# Altium schematic symbol library HW_HOLLAND_NCDM_MONITOR_R1.SchLib: 617 symbols (part 5 of 7)
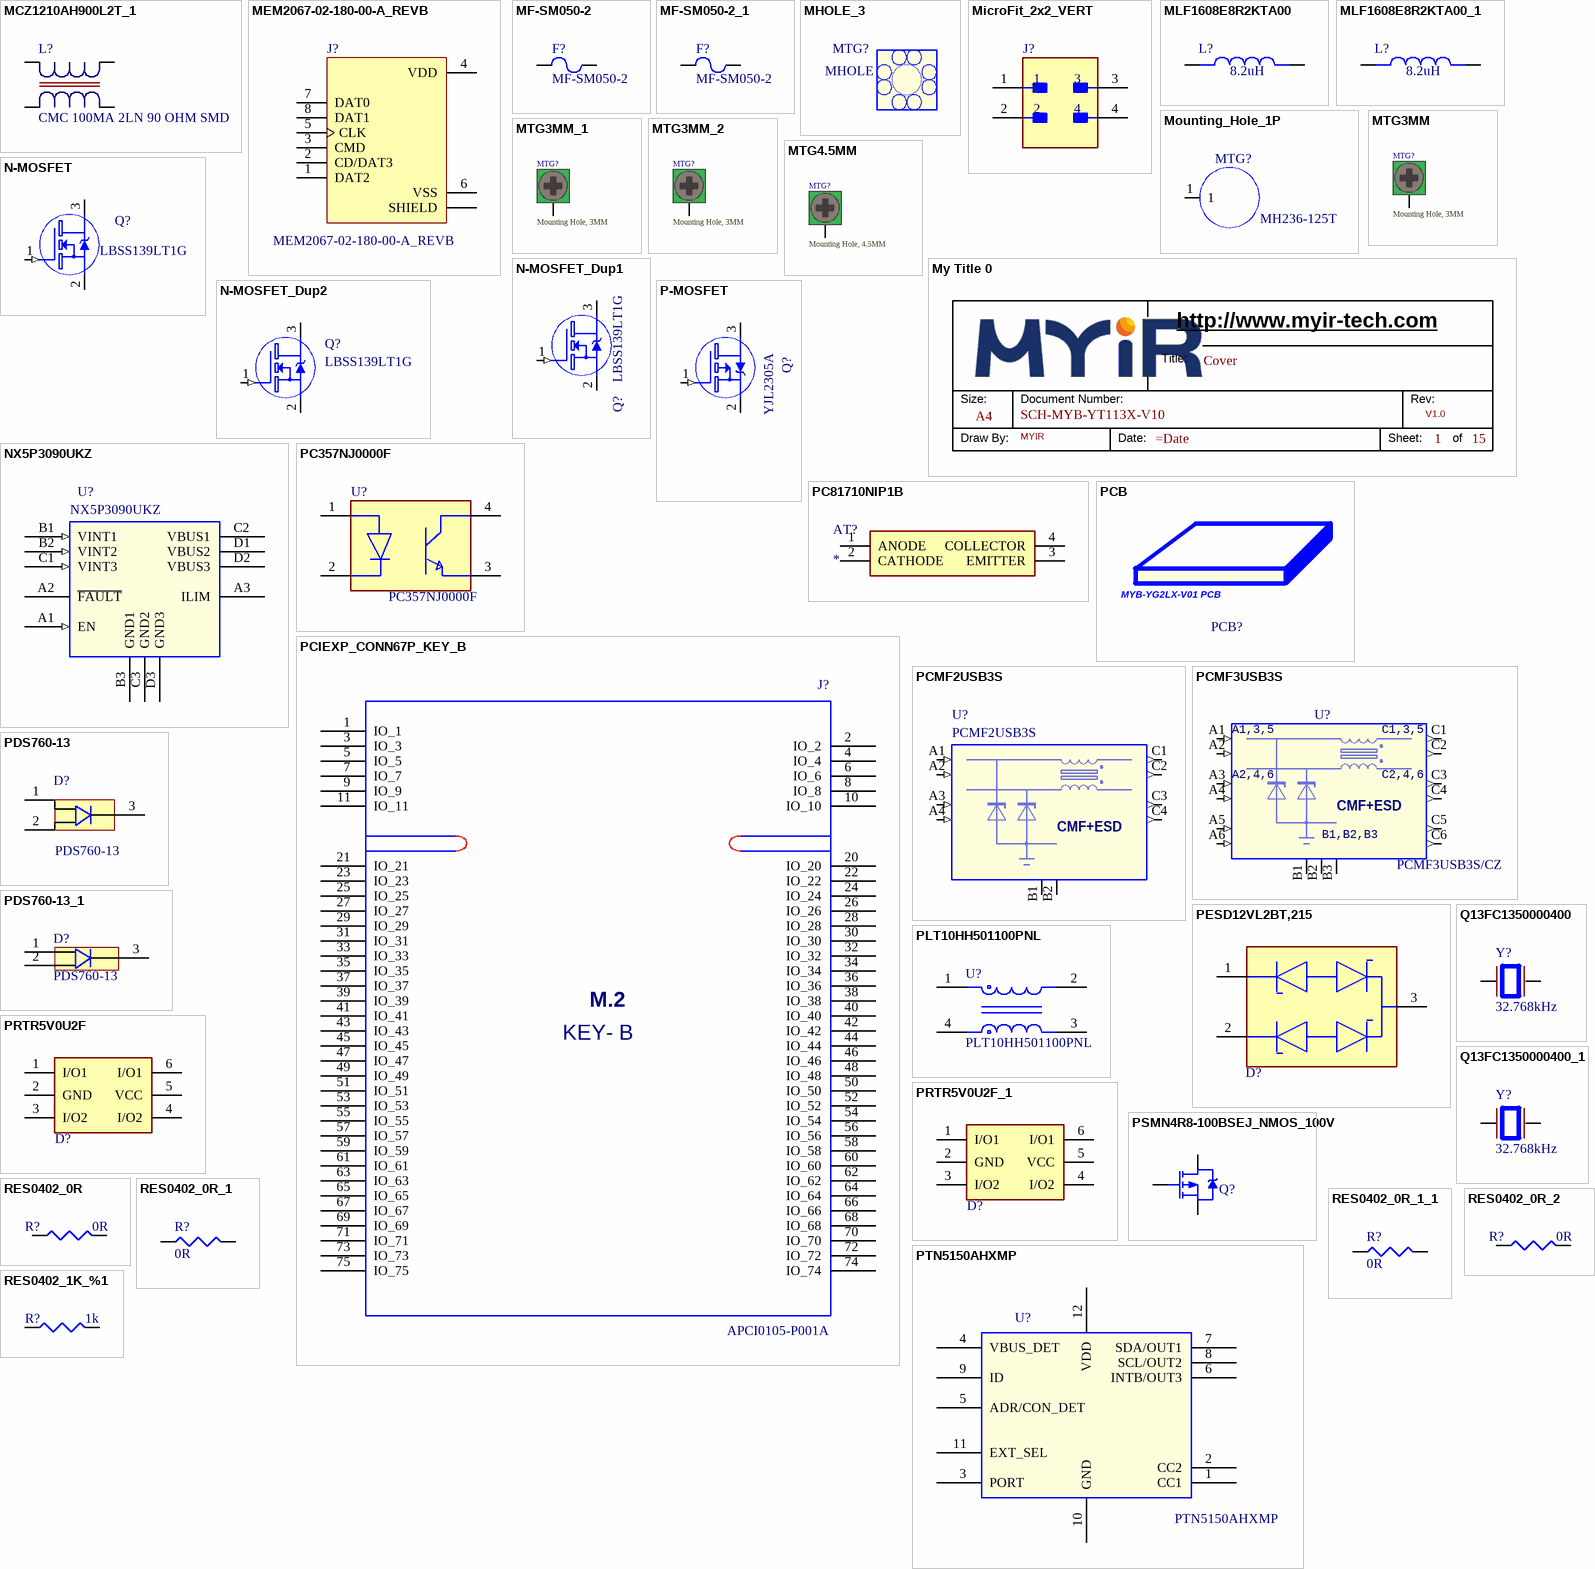
[diagram p23: symbols MCZ1210AH900L2T_1 to RES0402_1K_%1]

## MCZ1210AH900L2T_1
designator L?, comment CMC 100MA 2LN 90 OHM SMD
2 Line Common Mode Choke Surface Mount 90 Ohms @ 100 MHz 100mA DCR 1.75Ohm; Manufacturer Part Number: MCZ1210AH900L2TA0G; LCSC Manufacturer Part Number: MCZ1210AH900L2TD0G; Order Code: Digi: 445-MCZ1210AH900L2TA0GTR-ND; LCSC Part Number: C435268
footprint IND_MCZ1210AH_TDK
pins: 1, 2, 3 4, 4

## MEM2067-02-180-00-A_REVB
designator J?
Micro SD Memory Card ConnectorSMT, Hinged, 1.80mm Profile; Price: None; Value: *; Manufacturer Part Number: MEM2067-02-180-00-A_REVB; Package: None; Availability: Unavailable
footprint GCT_MEM2067-02-180-00-A_REVB
pins: 1 DAT2, 2 CD/DAT3, 3 CMD, 4 VDD, 5 CLK, 6 VSS, 7 DAT0, 8 DAT1, 9 SHIELD, 10 SHIELD, 11 SHIELD, 12 SHIELD

## MF-SM050-2
designator F?
PTC Resettable Fuse, 60 V, 40 A, -40 to 85 degC, 2-Pin SMD, RoHS, Tape and Reel; Manufacturer Part Number: MF-SM050-2; LCSC Manufacturer Part Number: MF-SM050-2; LCSC Part Number: C208496
footprint BOUR-MF-SM050-2_V (SMD, 2-Leads, Body 7.355x5.44mm)
pins: 1, 2

## MF-SM050-2_1
designator F?, comment MF-SM050-2
PTC Resettable Fuse, 60 V, 40 A, -40 to 85 degC, 2-Pin SMD, RoHS, Tape and Reel; Manufacturer Part Number: MF-SM050-2; LCSC Manufacturer Part Number: MF-SM050-2; LCSC Part Number: C208496
footprint BOUR-MF-SM050-2_V (SMD, 2-Leads, Body 7.355x5.44mm)
pins: 1, 2

## MHOLE_3
designator MTG?, comment MHOLE
PCB Footprint: hole3_2p-8
footprint mh230-156
footprint hole3_2p-8
pins: 1 GND1, 2 GND2, 3 GND3, 4 GND4, 5 GND5, 6 GND6, 7 GND7, 8 GND8, 9 GND9

## MicroFit_2x2_VERT
designator J?, comment 0430450427  (value not drawn)
Connector Header Through Hole 4 position 0.118" (3.00mm); Manufacturer: Molex; Manufacturer Part Number: 0430450427
footprint MicroFit_2x2_VERT
pins: 1, 2, 3, 4

## MLF1608E8R2KTA00
designator L?, comment value 8.2uH  (hidden comment: FIXED IND 8.2UH 10MA 1.5 OHM SMD)
Inductor RF Chip Shielded Multi-Layer 8.2uH 10% 4MHz 35Q-Factor Ferrite 10mA 1.5Ohm DCR 0603 T/R; Manufacturer Part Number: MLF1608E8R2KTA00; Order Code: Digi: 445-1024-2-ND
footprint INDC1608X95N
pins: 1, 2

## MLF1608E8R2KTA00_1
designator L?, comment value 8.2uH  (hidden comment: FIXED IND 8.2UH 10MA 1.5 OHM SMD)
Inductor RF Chip Shielded Multi-Layer 8.2uH 10% 4MHz 35Q-Factor Ferrite 10mA 1.5Ohm DCR 0603 T/R; Manufacturer Part Number: MLF1608E8R2KTA00; Order Code: Digi: 445-1024-2-ND
footprint INDC1608X95N
pins: 1, 2

## Mounting_Hole_1P
designator MTG?, comment MH236-125T
Mounting hole DRILL 125 CIRC PAD 236 PLATED THRU HOLE, NO PART TO ORDER; CLASS: IC; PCB Footprint: GNDPOINT256; CAD_APPROVED: Yes; MFG_PN01: none; AGILE_PN: 280-77051; HEIGHT: 0.05 MM; ROHS: Yes; MFG_NAME01: none
footprint GNDPOINT256
pins: 1

## MTG3MM
designator MTG?, comment Mounting Hole, 3MM  (no BOM)
footprint MTG-PTH-3MM
pins: 0

## MTG3MM_1
designator MTG?, comment Mounting Hole, 3MM  (no BOM)
footprint MTG-PTH-3MM
pins: 0

## MTG3MM_2
designator MTG?, comment Mounting Hole, 3MM  (no BOM)
footprint MTG-PTH-3MM
pins: 0

## MTG4.5MM
designator MTG?, comment Mounting Hole, 4.5MM  (no BOM)
footprint MTG-PTH-4.5MM
pins: 0

## My Title 0
designator *?  Page Count: 15  Page Number: 1  Page Size: A4  Title: SCH-MYB-YT113X-V10  RevCode: V1.0  Doc: Cover  Drawing: MYIR  (hidden comment: My Title 0)  (graphical)
Company: ÓÅÁú¿Æ¼¼; Page Create Date: May 29, 2006; WebSite: http://www.ucdragon.com; Page Modify Date: =Date
text: http://www.myir-tech.com; Title:; Size:; Document Number:; Rev:; Draw By:; Date:; Sheet:; of

## N-MOSFET
designator Q?, comment LBSS139LT1G
Mosfet,N-Channel,50V,0.2A,SMD,SOT-23,LRC; Myir P/N: 20703.00012; Part Type: Mosfet; Manufacturer: LRC; Manufacturer P/N: LBSS139LT1G; Reserve Value: LBSS139LT1G; Datasheet: LBSS139LT1G.pdf; PCB Footprint: SOT-23
footprint SOT23T02
footprint SOT-23
pins: 1 G (in), 2 S, 3 D (oc)

## N-MOSFET_Dup1
designator Q?, comment LBSS139LT1G
Mosfet,N-Channel,50V,0.2A,SMD,SOT-23,LRC; Myir P/N: 20703.00012; PCB Footprint: SOT-23; Datasheet: LBSS139LT1G.pdf; Reserve Value: LBSS139LT1G; Manufacturer P/N: LBSS139LT1G; Manufacturer: LRC; Part Type: Mosfet
footprint SOT23T02
footprint SOT-23
pins: 1 G (in), 2 S, 3 D (oc)

## N-MOSFET_Dup2
designator Q?, comment LBSS139LT1G
Mosfet,N-Channel,50V,0.2A,SMD,SOT-23,LRC; Myir P/N: 20703.00012; Part Type: Mosfet; Manufacturer: LRC; Manufacturer P/N: LBSS139LT1G; Reserve Value: LBSS139LT1G; Datasheet: LBSS139LT1G.pdf; PCB Footprint: SOT-23
footprint SOT23T02
footprint SOT-23
pins: 1 G (in), 2 S, 3 D (oc)

## NX5P3090UKZ
designator U?
IC,USB PD and type C current-limited power switch,SMD,WLCSP12,X5PT2,NXP; Myir P/N: 20105.00023; CLASS: IC; Part Type: Logic; Manufacturer: NXP; Manufacturer P/N: NX5P3090UKZ; Reserve Value: NX5P3090UKZ; Datasheet: NX5P3090.pdf; PCB Footprint: WLCSP12
footprint WLCSP12
pins: A1 EN (in), A2 ~{FAULT} (oc), A3 ILIM, B1 VINT1 (in), B2 VINT2 (in), B3 GND1 (power), C1 VINT3 (in), C2 VBUS1, C3 GND2 (power), D1 VBUS2, D2 VBUS3, D3 GND3 (power)

## P-MOSFET
designator Q?, comment YJL2305A
Mosfet,P-Channel,15V,70OHM,5.6A,SOT23,SMD,YangJie; RP2 Manufacturer P/N: PMV48XPA; RP1 Manufacturer P/N: IRLML6401TRPBF; RP2 Myir P/N: 20703.00014; RP1 Myir P/N: 20703.00005; Myir P/N: 20703.80039; PCB Footprint: SOT-23; Part Type: Mosfet; Manufacturer: YangJie; Manufacturer P/N: YJL2305A; Reserve Value: YJL2305A; Datasheet: YJL2305A.pdf
footprint SOT23T02
footprint SOT-23
pins: 1 G (in), 2 S, 3 D

## PC357NJ0000F
designator U?, comment Manufacturer Part Number: PC357NJ0000F  (hidden comment: OPTOISO 3.75KV TRANSISTOR 4BESOP)
Optoisolator Transistor Output 3750Vrms 1 Channel 4-SMD; Manufacturer: SHARP/Socle Technology
footprint Sharp_PC357NJ0000F_0
pins: 1 A, 2 C, 3 E, 4 C

## PC81710NIP1B
designator AT?
Attenuator or Isolator; Manufacturer_Name: Sharp Microelectronics; Manufacturer_Part_Number: PC81710NIP1B; Datasheet Link: https://global.sharp/products/device/lineup/data/pdf/datasheet/PC8171xNSZ1B_e.pdf; Height: 4.2mm; Mouser Part Number: 852-PC81710NIP1B; Mouser Price/Stock: https://www.mouser.co.uk/ProductDetail/Sharp-Microelectronics/PC81710NIP1B?qs=MLItCLRbWswN8lAuXmPENg%3D%3D
footprint SOP254P960X420-4N
pins: 1 ANODE, 2 CATHODE, 3 EMITTER, 4 COLLECTOR

## PCB
designator PCB?, comment MYB-YG2LX-V01 PCB
PCB Footprint: id-board; Page: 31
footprint id-board

## PCIEXP_CONN67P_KEY_B
designator J?, comment APCI0105-P001A
Board Connector,M.2 B-KEY, M.2 Connectors, Connector Height 4.2 mm, Gold, Board-to-Board, 67 Position, 0.5mm,Lotes; CLASS: IO; Myir P/N: 21110.00027; PCB Footprint: CONN-2199230-3; Datasheet: APCI0105-H=4.2(B KEY) .pdf; Reserve Value: APCI0105-P001A; Manufacturer P/N: APCI0105-P001A; Manufacturer: Lotes; Part Type: Board Connector
footprint CONN-2199230-3
pins: 1 IO_1, 2 IO_2, 3 IO_3, 4 IO_4, 5 IO_5, 6 IO_6, 7 IO_7, 8 IO_8, 9 IO_9, 10 IO_10, 11 IO_11, 20 IO_20, 21 IO_21, 22 IO_22, 23 IO_23, 24 IO_24, 25 IO_25, 26 IO_26, 27 IO_27, 28 IO_28, 29 IO_29, 30 IO_30, 31 IO_31, 32 IO_32, 33 IO_33, 34 IO_34, 35 IO_35, 36 IO_36, 37 IO_37, 38 IO_38, 39 IO_39, 40 IO_40, 41 IO_41, 42 IO_42, 43 IO_43, 44 IO_44, 45 IO_45, 46 IO_46, 47 IO_47, 48 IO_48, 49 IO_49, 50 IO_50, 51 IO_51, 52 IO_52, 53 IO_53, 54 IO_54, 55 IO_55, 56 IO_56, 57 IO_57, 58 IO_58, 59 IO_59, 60 IO_60, 61 IO_61, 62 IO_62, 63 IO_63, 64 IO_64, 65 IO_65, 66 IO_66, 67 IO_67, 68 IO_68, 69 IO_69, 70 IO_70, 71 IO_71, 72 IO_72, 73 IO_73, 74 IO_74, 75 IO_75
text: M.2; KEY- B

## PCMF2USB3S
designator U?
IC,Common-mode EMI filter for 2 channels with integrated ESD protection,SMD,WLCSP10,PF2S,NXP; Myir P/N: 20114.00011; CLASS: IC; Datasheet: PCMFxUSB3S.pdf; Reserve Value: PCMF2USB3S; Manufacturer P/N: PCMF2USB3S; Manufacturer: NXP; Part Type: Protection; PCB Footprint: WLCSP10
footprint WLCSP10
pins: A1 CH1_IN+ (in), A2 CH1_IN- (in), A3 CH2_IN+ (in), A4 CH2_IN- (in), B1 GND_CH1 (power), B2 GND_CH2 (power), C1 CH1_OUT+ (out), C2 CH1_OUT- (out), C3 CH2_OUT+ (out), C4 CH2_OUT- (out)
text: CMF+ESD

## PCMF3USB3S
designator U?, comment PCMF3USB3S/CZ
IC,Common-mode EMI filter for 3 channels with integrated ESD protection,SMD,WLCSP15,PF3S,NXP; Myir P/N: 20114.00010; CLASS: IC; Part Type: Protection; Manufacturer: NXP; Manufacturer P/N: PCMF3USB3S/CZ; Reserve Value: PCMF3USB3S/CZ; Datasheet: PCMFxUSB3S.pdf; PCB Footprint: WLCSP15
footprint WLCSP15
pins: A1 CH1_IN+ (in), A2 CH1_IN- (in), A3 CH2_IN+ (in), A4 CH2_IN- (in), A5 CH3_IN+ (in), A6 CH3_IN- (in), B1 GND_CH1 (power), B2 GND_CH2 (power), B3 GND_CH3 (power), C1 CH1_OUT+ (out), C2 CH1_OUT- (out), C3 CH2_OUT+ (out), C4 CH2_OUT- (out), C5 CH3_OUT+ (out), C6 CH3_OUT- (out)
text: A1,3,5; C1,3,5; A2,4,6; C2,4,6; CMF+ESD; B1,B2,B3

## PDS760-13
designator D?, comment Manufacturer Part Number: PDS760-13  (hidden comment: DIODE SCHOTTKY 60V 7A POWERDI5)
Diode 60 V 7A Surface Mount PowerDI™ 5; Order Code: Digi: PDS760DITR-ND; LCSC Manufacturer Part Number: PDS760-13; LCSC Part Number: C96113
footprint POWERDI5
pins: 1 LEFT_PIN, 2 RIGHT_PIN, 3 BOTTOMSIDE_HEAT_SINK

## PDS760-13_1
designator D?, comment Manufacturer Part Number: PDS760-13  (hidden comment: DIODE SCHOTTKY 60V 7A POWERDI5)
Diode 60 V 7A Surface Mount PowerDI™ 5; Order Code: Digi: PDS760DITR-ND; LCSC Manufacturer Part Number: PDS760-13; LCSC Part Number: C96113
footprint POWERDI5
pins: 1 LEFT_PIN, 2 RIGHT_PIN, 3 BOTTOMSIDE_HEAT_SINK

## PESD12VL2BT,215
designator D?  (value not drawn)
37V Clamp 5A (8/20µs) Ipp Tvs Diode Surface Mount TO-236AB; Manufacturer: Nexperia USA Inc.; Manufacturer Part Number: PESD12VL2BT,215; Voltage - Clamping (Max) @ Ipp: 37V; Current - Peak Pulse (10/1000µs): 5A
footprint Nexperia_SOT23_0
pins: 1 cathode 1, 2 cathode 2, 3 double cathode

## PLT10HH501100PNL
designator U?
2 Line Common Mode Choke Surface Mount 500 Ohms @ 10 MHz 10A DCR 4.1mOhm; Manufacturer Name: Murata Electronics; Voltage Rating - DC: 100V; Manufacturer Part Number: PLT10HH501100PNL; Impedance @ Frequency: 500Ohms@10MHz; Current Rating (Max): 10A
footprint Murata_PLT10HN_MFG
pins: 1, 2, 3, 4

## PRTR5V0U2F
designator D?, comment SON-6(1x1.5) ESD Protection Devices ROHS  (value not drawn)
Manufacturer Part Number: PRTR5V0U2F; Order Code: LCSC: C2937001; LCSC Manufacturer Part Number: PRTR5V0U2F; LCSC Part Number: C2937001
footprint Nexperia_SOT886_MFG
pins: 1 I/O1, 2 GND, 3 I/O2, 4 I/O2, 5 VCC (power), 6 I/O1

## PRTR5V0U2F_1
designator D?, comment SON-6(1x1.5) ESD Protection Devices ROHS  (value not drawn)
Manufacturer Part Number: PRTR5V0U2F; Order Code: LCSC: C2937001; LCSC Manufacturer Part Number: PRTR5V0U2F; LCSC Part Number: C2937001
footprint Nexperia_SOT886_MFG
pins: 1 I/O1, 2 GND (power), 3 I/O2, 4 I/O2, 5 VCC (power), 6 I/O1

## PSMN4R8-100BSEJ_NMOS_100V
designator Q?, comment 100V 120A  (value not drawn)
MOSFET N-CH 100V D2PAK; Manufacturer Part Number: PSMN4R8-100BSEJ; Order Code: DIGI : 1727-1103-1-ND; Value: 100V 120A
footprint TO263-2
pins: 1 G, 2 D, 3 S

## PTN5150AHXMP
designator U?
IC,CC logic for USB Type-C applications,SMD,XFQFN12,50,NXP; Myir P/N: 20105.00024; PCB Footprint: x2qfn12; CLASS: IC; Datasheet: PTN5150.pdf; Reserve Value: PTN5150AHXMP; Manufacturer P/N: PTN5150AHXMP; Manufacturer: NXP; Part Type: Logic
footprint x2qfn12
pins: 1 CC1, 2 CC2, 3 PORT, 4 VBUS_DET, 5 ADR/CON_DET, 6 INTB/OUT3, 7 SDA/OUT1, 8 SCL/OUT2, 9 ID, 10 GND, 11 EXT_SEL, 12 VDD

## Q13FC1350000400
designator Y?, comment value 32.768kHz  (hidden comment: SEIKO 3215 32.768kHz CRSYTAL)
32.768kHz 12.5pF ±20ppm SMD3215-2P Crystals ROHS; Manufacturer Part Number: Q13FC1350000400; Order Code: LCSC: C32346; LCSC Manufacturer Part Number: Q13FC1350000400; LCSC Part Number: C32346
footprint XTAL_ABS07-32.768KHZ-T
pins: 1, 2

## Q13FC1350000400_1
designator Y?, comment value 32.768kHz  (hidden comment: SEIKO 3215 32.768kHz CRSYTAL)
32.768kHz 12.5pF ±20ppm SMD3215-2P Crystals ROHS; Manufacturer Part Number: Q13FC1350000400; Order Code: LCSC: C32346; LCSC Manufacturer Part Number: Q13FC1350000400; LCSC Part Number: C32346
footprint XTAL_ABS07-32.768KHZ-T
pins: 1, 2

## RES0402_0R
designator R?, comment value 0R  (hidden comment: RES 0 OHM JUMPER 1/16W 0402)
0 Ohms Jumper Chip Resistor 0402 (1005 Metric) Moisture Resistant Thick Film; Manufacturer Part Number: RC0402JR-070RL; Order Code: Digi: 311-0.0JRTR-ND; Sirius Stock Code: *; LCSC Manufacturer Part Number: RC0402JR-070RL; LCSC Part Number: C60485
footprint RES0402(1005)
pins: 1, 2

## RES0402_0R_1
designator R?, comment value 0R  (hidden comment: RES 0 OHM JUMPER 1/16W 0402)
0 Ohms Jumper Chip Resistor 0402 (1005 Metric) Moisture Resistant Thick Film; Manufacturer Part Number: RC0402JR-070RL; Order Code: Digi: 311-0.0JRTR-ND; Sirius Stock Code: *; LCSC Manufacturer Part Number: RC0402JR-070RL; LCSC Part Number: C60485
footprint RES0402(1005)
pins: 1, 2

## RES0402_0R_1_1
designator R?, comment value 0R  (hidden comment: RES 0 OHM JUMPER 1/16W 0402)
0 Ohms Jumper Chip Resistor 0402 (1005 Metric) Moisture Resistant Thick Film; Manufacturer Part Number: RC0402JR-070RL; Order Code: Digi: 311-0.0JRTR-ND; Sirius Stock Code: *; LCSC Manufacturer Part Number: RC0402JR-070RL; LCSC Part Number: C60485
footprint RES0402(1005)
pins: 1, 2

## RES0402_0R_2
designator R?, comment value 0R  (hidden comment: RES 0 OHM JUMPER 1/16W 0402)
0 Ohms Jumper Chip Resistor 0402 (1005 Metric) Moisture Resistant Thick Film; Manufacturer Part Number: RC0402JR-070RL; Order Code: Digi: 311-0.0JRTR-ND; Sirius Stock Code: *; LCSC Manufacturer Part Number: RC0402JR-070RL; LCSC Part Number: C60485
footprint RES0402(1005)
pins: 1, 2

## RES0402_1K_%1
designator R?, comment value 1k  (hidden comment: RES 1K OHM 1% 1/16W 0402)
1 kOhms ±1% 0.063W, 1/16W Chip Resistor 0402 (1005 Metric) Moisture Resistant Thick Film; Manufacturer Part Number: RC0402FR-071KL; Order Code: Digi: 311-1.00KLRTR-ND; Sirius Stock Code: *; LCSC Manufacturer Part Number: RC0402FR-071KL; LCSC Part Number: C106235
footprint RES0402(1005)
pins: 1, 2

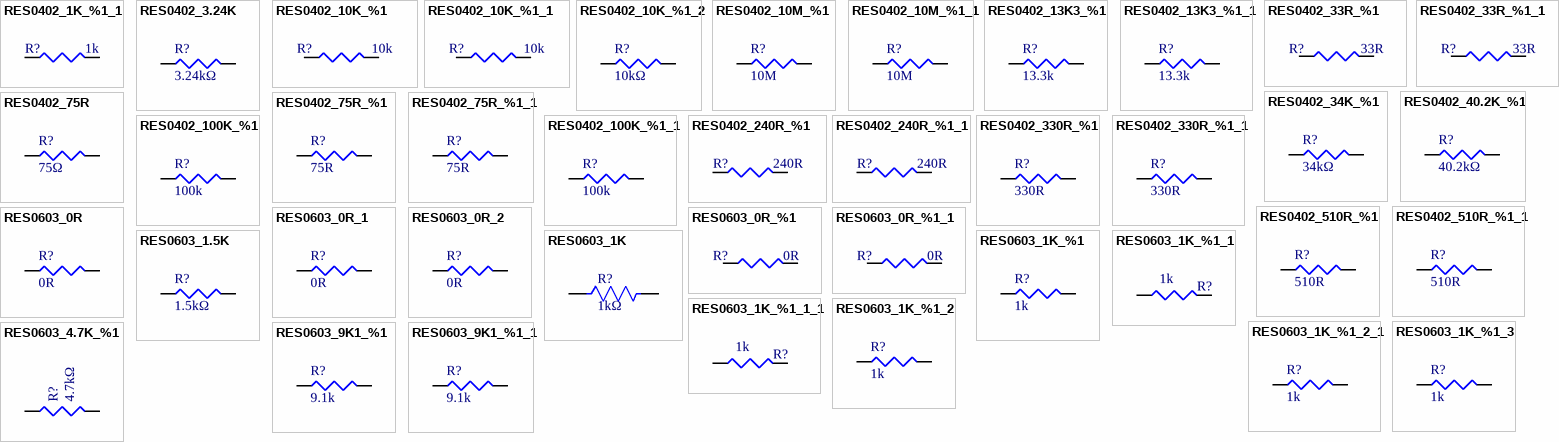
[diagram p12: symbols RES0402_1K_%1_1 to RES0603_9K1_%1_1]

## RES0402_1K_%1_1
designator R?, comment value 1k  (hidden comment: RES 1K OHM 1% 1/16W 0402)
1 kOhms ±1% 0.063W, 1/16W Chip Resistor 0402 (1005 Metric) Moisture Resistant Thick Film; Manufacturer Part Number: RC0402FR-071KL; Order Code: Digi: 311-1.00KLRTR-ND; Sirius Stock Code: *; LCSC Manufacturer Part Number: RC0402FR-071KL; LCSC Part Number: C106235
footprint RES0402(1005)
pins: 1, 2

## RES0402_3.24K
designator R?, comment 3.24kΩ
22.1 kOhms ±1% 0.063W, 1/16W Chip Resistor 0402 (1005 Metric) Automotive AEC-Q200 Thick Film; Manufacturer Part Number: ERJ-2RKF3241X; LCSC Manufacturer Part Number: RC0402FR-0756K2L; Order Code: Digi: YAG3187TR-ND; Sirius Stock Code: *; LCSC Part Number: C183355; Value: 3.24kΩ
footprint RES0402
pins: 1, 2

## RES0402_10K_%1
designator R?, comment value 10k  (hidden comment: RES 10K OHM 1% 1/16W 0402)
10 kOhms ±1% 0.063W, 1/16W Chip Resistor 0402 (1005 Metric) Moisture Resistant Thick Film; Manufacturer Part Number: RC0402FR-0710KL; Order Code: Digi: 311-10.0KLRTR-ND; Sirius Stock Code: *; LCSC Manufacturer Part Number: RC0402FR-0710KL; LCSC Part Number: C60490
footprint RES0402(1005)
pins: 1, 2

## RES0402_10K_%1_1
designator R?, comment value 10k  (hidden comment: RES 10K OHM 1% 1/16W 0402)
10 kOhms ±1% 0.063W, 1/16W Chip Resistor 0402 (1005 Metric) Moisture Resistant Thick Film; Manufacturer Part Number: RC0402FR-0710KL; Order Code: Digi: 311-10.0KLRTR-ND; Sirius Stock Code: *; LCSC Manufacturer Part Number: RC0402FR-0710KL; LCSC Part Number: C60490
footprint RES0402(1005)
pins: 1, 2

## RES0402_10K_%1_2
designator R?, comment 10kΩ
10 kOhms ±1% 0.063W, 1/16W Chip Resistor 0402 (1005 Metric) Moisture Resistant Thick Film; Manufacturer Part Number: RC1005F103CS; LCSC Manufacturer Part Number: RC0402FR-0756K2L; Order Code: Digi: YAG3187TR-ND; Sirius Stock Code: *; LCSC Part Number: C183355; Value: 10kΩ
footprint RES0402
pins: 1, 2

## RES0402_10M_%1
designator R?, comment value 10M  (hidden comment: RES 10M OHM 1% 1/16W 0402)
10MΩ 62.5mW ±1% Thick Film Resistors 0402 Chip Resistor - Surface Mount ROHS; Manufacturer Part Number: RC0402FR-0710ML; Order Code: Digi: 311-10.0MLRTR-ND; Sirius Stock Code: *; LCSC Manufacturer Part Number: RC0402FR-0710ML; LCSC Part Number: C138067
footprint RES0402(1005)
pins: 1, 2

## RES0402_10M_%1_1
designator R?, comment value 10M  (hidden comment: RES 10M OHM 1% 1/16W 0402)
10MΩ 62.5mW ±1% Thick Film Resistors 0402 Chip Resistor - Surface Mount ROHS; Manufacturer Part Number: RC0402FR-0710ML; Order Code: Digi: 311-10.0MLRTR-ND; Sirius Stock Code: *; LCSC Manufacturer Part Number: RC0402FR-0710ML; LCSC Part Number: C138067
footprint RES0402(1005)
pins: 1, 2

## RES0402_13K3_%1
designator R?, comment value 13.3k  (hidden comment: RES 1M OHM 1% 1/16W 0402)
1 MOhms ±1% 0.063W, 1/16W Chip Resistor 0402 (1005 Metric) Moisture Resistant Thick Film; Manufacturer Part Number: RC0402FR-0713K3L; Order Code: Digi: YAG2974TR-ND; Sirius Stock Code: *; LCSC Manufacturer Part Number: RC0402FR-0713K3L; LCSC Part Number: C274352
footprint RES0402(1005)
pins: 1, 2

## RES0402_13K3_%1_1
designator R?, comment value 13.3k  (hidden comment: RES 1M OHM 1% 1/16W 0402)
1 MOhms ±1% 0.063W, 1/16W Chip Resistor 0402 (1005 Metric) Moisture Resistant Thick Film; Manufacturer Part Number: RC0402FR-0713K3L; Order Code: Digi: YAG2974TR-ND; Sirius Stock Code: *; LCSC Manufacturer Part Number: RC0402FR-0713K3L; LCSC Part Number: C274352
footprint RES0402(1005)
pins: 1, 2

## RES0402_33R_%1
designator R?, comment value 33R  (hidden comment: RES 33 OHM 1% 1/16W 0402)
33 Ohms ±1% 0.063W, 1/16W Chip Resistor 0402 (1005 Metric) Moisture Resistant Thick Film; Manufacturer Part Number: RC0402FR-0733RL; Order Code: Digi: 311-33.0LRTR-ND; Sirius Stock Code: *; LCSC Manufacturer Part Number: RC0402FR-0733RL; LCSC Part Number: C138002
footprint RES0402(1005)
pins: 1, 2

## RES0402_33R_%1_1
designator R?, comment value 33R  (hidden comment: RES 33 OHM 1% 1/16W 0402)
33 Ohms ±1% 0.063W, 1/16W Chip Resistor 0402 (1005 Metric) Moisture Resistant Thick Film; Manufacturer Part Number: RC0402FR-0733RL; Order Code: Digi: 311-33.0LRTR-ND; Sirius Stock Code: *; LCSC Manufacturer Part Number: RC0402FR-0733RL; LCSC Part Number: C138002
footprint RES0402(1005)
pins: 1, 2

## RES0402_34K_%1
designator R?, comment 34kΩ
34 kOhms ±1% 0.063W, 1/16W Chip Resistor 0402 (1005 Metric) Automotive AEC-Q200 Thick Film; Manufacturer Part Number: CRCW040234K0FKED; LCSC Manufacturer Part Number: RC0402FR-0756K2L; Order Code: Digi: YAG3187TR-ND; Sirius Stock Code: *; LCSC Part Number: C183355; Value: 34kΩ
footprint RES0402
pins: 1, 2

## RES0402_40.2K_%1
designator R?, comment 40.2kΩ
40.2 kOhms ±1% 0.063W, 1/16W Chip Resistor 0402 (1005 Metric) Automotive AEC-Q200 Thick Film; Manufacturer Part Number: CRCW040240K2FKED; LCSC Manufacturer Part Number: RC0402FR-0756K2L; Order Code: Digi: YAG3187TR-ND; Sirius Stock Code: *; LCSC Part Number: C183355; Value: 40.2kΩ
footprint RES0402
pins: 1, 2

## RES0402_75R
designator R?, comment 75Ω
75 Ohms ±1% 0.063W, 1/16W Chip Resistor 0402 (1005 Metric) Moisture Resistant Thick Film; Manufacturer Part Number: RC0402FR-0775RL; LCSC Manufacturer Part Number: RC0402FR-0756K2L; Order Code: Digi: YAG3187TR-ND; Value: 75Ω; Sirius Stock Code: *; LCSC Part Number: C183355
footprint RES0402
pins: 1, 2

## RES0402_75R_%1
designator R?, comment value 75R  (hidden comment: RES 75 OHM 1% 1/16W 0402)
75 Ohms ±1% 0.063W, 1/16W Chip Resistor 0402 (1005 Metric) Moisture Resistant Thick Film; Manufacturer Part Number: RC0402FR-0775RL; Order Code: Digi: 311-75.0LRTR-ND; Sirius Stock Code: *; LCSC Part Number: C114757; LCSC Manufacturer Part Number: RC0402FR-0775RL
footprint RES0402(1005)
pins: 1, 2

## RES0402_75R_%1_1
designator R?, comment value 75R  (hidden comment: RES 75 OHM 1% 1/16W 0402)
75 Ohms ±1% 0.063W, 1/16W Chip Resistor 0402 (1005 Metric) Moisture Resistant Thick Film; Manufacturer Part Number: RC0402FR-0775RL; Order Code: Digi: 311-75.0LRTR-ND; Sirius Stock Code: *; LCSC Part Number: C114757; LCSC Manufacturer Part Number: RC0402FR-0775RL
footprint RES0402(1005)
pins: 1, 2

## RES0402_100K_%1
designator R?, comment value 100k  (hidden comment: RES 100K OHM 1% 1/16W 0402)
100 kOhms ±1% 0.063W, 1/16W Chip Resistor 0402 (1005 Metric) Moisture Resistant Thick Film; Manufacturer Part Number: RC0402FR-07100KL; Order Code: Digi: 311-100KLRTR-ND; Sirius Stock Code: *; LCSC Part Number: C60491; LCSC Manufacturer Part Number: RC0402FR-07100KL
footprint RES0402(1005)
pins: 1, 2

## RES0402_100K_%1_1
designator R?, comment value 100k  (hidden comment: RES 100K OHM 1% 1/16W 0402)
100 kOhms ±1% 0.063W, 1/16W Chip Resistor 0402 (1005 Metric) Moisture Resistant Thick Film; Manufacturer Part Number: RC0402FR-07100KL; Order Code: Digi: 311-100KLRTR-ND; Sirius Stock Code: *; LCSC Part Number: C60491; LCSC Manufacturer Part Number: RC0402FR-07100KL
footprint RES0402(1005)
pins: 1, 2

## RES0402_240R_%1
designator R?, comment value 240R  (hidden comment: RES 240 OHM 1% 1/16W 0402)
240 Ohms ±1% 0.063W, 1/16W Chip Resistor 0402 (1005 Metric) Moisture Resistant Thick Film; Manufacturer Part Number: RC0402FR-07240RL; Order Code: Digi: 311-240LRTR-ND; Sirius Stock Code: *; LCSC Part Number: C114755; LCSC Manufacturer Part Number: RC0402FR-07240RL
footprint RES0402(1005)
pins: 1, 2

## RES0402_240R_%1_1
designator R?, comment value 240R  (hidden comment: RES 240 OHM 1% 1/16W 0402)
240 Ohms ±1% 0.063W, 1/16W Chip Resistor 0402 (1005 Metric) Moisture Resistant Thick Film; Manufacturer Part Number: RC0402FR-07240RL; Order Code: Digi: 311-240LRTR-ND; Sirius Stock Code: *; LCSC Part Number: C114755; LCSC Manufacturer Part Number: RC0402FR-07240RL
footprint RES0402(1005)
pins: 1, 2

## RES0402_330R_%1
designator R?, comment value 330R  (hidden comment: RES 330 OHM 1% 1/16W 0402)
330 Ohms ±1% 0.063W, 1/16W Chip Resistor 0402 (1005 Metric) Moisture Resistant Thick Film; Manufacturer Part Number: RC0402FR-07330RL; Order Code: Digi: 311-330LRTR-ND; Sirius Stock Code: *; LCSC Part Number: C105875; LCSC Manufacturer Part Number: RC0402FR-07330RL
footprint RES0402(1005)
pins: 1, 2

## RES0402_330R_%1_1
designator R?, comment value 330R  (hidden comment: RES 330 OHM 1% 1/16W 0402)
330 Ohms ±1% 0.063W, 1/16W Chip Resistor 0402 (1005 Metric) Moisture Resistant Thick Film; Manufacturer Part Number: RC0402FR-07330RL; Order Code: Digi: 311-330LRTR-ND; Sirius Stock Code: *; LCSC Part Number: C105875; LCSC Manufacturer Part Number: RC0402FR-07330RL
footprint RES0402(1005)
pins: 1, 2

## RES0402_510R_%1
designator R?, comment value 510R  (hidden comment: RES 510 OHM 5% 1/16W 0402)
510 Ohms ±5% 0.063W, 1/16W Chip Resistor 0402 (1005 Metric) Moisture Resistant Thick Film; Manufacturer Part Number: RC0402JR-07510RL; Order Code: Digi: 311-510JRTR-ND; Sirius Stock Code: *; LCSC Part Number: C137860; LCSC Manufacturer Part Number: RC0402JR-07510RL
footprint RES0402(1005)
pins: 1, 2

## RES0402_510R_%1_1
designator R?, comment value 510R  (hidden comment: RES 510 OHM 5% 1/16W 0402)
510 Ohms ±5% 0.063W, 1/16W Chip Resistor 0402 (1005 Metric) Moisture Resistant Thick Film; Manufacturer Part Number: RC0402JR-07510RL; Order Code: Digi: 311-510JRTR-ND; Sirius Stock Code: *; LCSC Part Number: C137860; LCSC Manufacturer Part Number: RC0402JR-07510RL
footprint RES0402(1005)
pins: 1, 2

## RES0603_0R
designator R?, comment value 0R  (hidden comment: RES 0 OHM JUMPER 1/10W 0603)
0 Ohms Jumper 0.1W, 1/10W Chip Resistor 0603 (1608 Metric) Automotive AEC-Q200 Thick Film; Manufacturer Part Number: RMCF0603ZT0R00; LCSC Manufacturer Part Number: RCA06030000ZSEA; Sirius Stock Code: S182-00000RDJD; Order Code: Digi:RMCF0603ZT0R00TR-ND; LCSC Part Number: C5158082
footprint RES0603 (RESISTOR 0603)
pins: 1, 2

## RES0603_0R_1
designator R?, comment value 0R  (hidden comment: RES 0 OHM JUMPER 1/10W 0603)
0 Ohms Jumper 0.1W, 1/10W Chip Resistor 0603 (1608 Metric) Automotive AEC-Q200 Thick Film; Manufacturer Part Number: RMCF0603ZT0R00; LCSC Manufacturer Part Number: RCA06030000ZSEA; Sirius Stock Code: S182-00000RDJD; Order Code: Digi:RMCF0603ZT0R00TR-ND; LCSC Part Number: C5158082
footprint RES0603 (RESISTOR 0603)
pins: 1, 2

## RES0603_0R_2
designator R?, comment 0R
RES SMD 0 OHM JUMPER 1/10W 0603; Manufacturer Part Number: ERJ-3GEY0R00V; Order Code: DIGI : P0.0GCT-ND; ART Code: ART0016157; Value: 0R
footprint R0603
pins: 1, 2

## RES0603_0R_%1
designator R?, comment value 0R  (hidden comment: RES 0R OHM 1% 1/10W 0603)
10 kOhms ±1% 0.1W, 1/10W Chip Resistor 0603 (1608 Metric) Moisture Resistant Thick Film; Manufacturer Part Number: RC0603FR-070RL; Order Code: Digi: 311-0.0HRTR-ND; Sirius Stock Code: *; LCSC Part Number: C100044; LCSC Manufacturer Part Number: RC0603FR-070RL
footprint SMR0603
pins: 1, 2

## RES0603_0R_%1_1
designator R?, comment value 0R  (hidden comment: RES 0R OHM 1% 1/10W 0603)
10 kOhms ±1% 0.1W, 1/10W Chip Resistor 0603 (1608 Metric) Moisture Resistant Thick Film; Manufacturer Part Number: RC0603FR-070RL; Order Code: Digi: 311-0.0HRTR-ND; Sirius Stock Code: *; LCSC Part Number: C100044; LCSC Manufacturer Part Number: RC0603FR-070RL
footprint SMR0603
pins: 1, 2

## RES0603_1.5K
designator R?, comment 1.5kΩ
1.5 kOhms ±1% 0.1W, 1/10W Chip Resistor 0603 (1608 Metric) Moisture Resistant Thick Film; Manufacturer: YAGEO; Part Number: RC0603JR-0710KL; Manufacturer Part Number: CR0603-FX-2492ELF; Tolerance: ±5%; Category 7542B8484461Ae85: Passive Components; Category 5A00970A6D5C81C7: Uncategorized; Category 5C6A91606D4187Ad: Resistors; Category Cd01000Bfc2916C6: Single Components; Symbol 0 0: Standard; Num Pins: 2; Value: 1.5kΩ; Package: 0603 (1608 metric); ComponentLink1Description: Upverter; ComponentLink1URL: https://upverter.com/upn/revision/974350d35a6c8a23/; helpURL: https://upverter.com/upn/revision/974350d35a6c8a23/; ComponentLink2Description: Datasheet; Temperature: -55°C to +155°C; Supplier 2: Mouser; Price: 0.00379592162232; Supplier 1: Digi-Key; Supplier Part Number 1: 311-10KGRCT-ND; ComponentLink2URL: http://www.yageo.com/documents/recent/PYu-RC_Group_51_RoHS_L_6.pdf; RoHS: TRUE; Mouser Part Number: 603-RC0603JR-0710KL; Ipc Land Pattern Name: RESC16080X45; Rated Power: 0.1W; Temperature Range High: +155°C; Octopart Part Number: 1fdcd61e8aa8c01b; Digikey Description: RES 10k Ohm ±5% 0.1W, 1/10W Chip Resistor 0603 (1608 Metric) Moisture Resistant Thick Film; Digikey Part Number: 311-10KGRCT-ND; Type: integrated circuit; Lead Free: yes; Temperature Range Low: -55°C
footprint R0603
pins: 1, 2

## RES0603_1K
designator R?, comment 1kΩ
1 kOhms ±1% 0.125W, 1/8W Chip Resistor 0603 (1608 Metric) Anti-Sulfur Thin Film; Part Number: RC0603JR-0710KL; Manufacturer Part Number: RMCF0603FT180K; Manufacturer: YAGEO; Rated Power: 0.1W; Tolerance: ±5%; Category 7542B8484461Ae85: Passive Components; Category 5A00970A6D5C81C7: Uncategorized; Category 5C6A91606D4187Ad: Resistors; Category Cd01000Bfc2916C6: Single Components; Symbol 0 0: Standard; Num Pins: 2; helpURL: https://upverter.com/upn/revision/974350d35a6c8a23/; ComponentLink2Description: Datasheet; Temperature: -55°C to +155°C; Package: 0603 (1608 metric); Supplier 2: Mouser; Price: 0.00379592162232; Supplier 1: Digi-Key; ComponentLink1URL: https://upverter.com/upn/revision/974350d35a6c8a23/; Supplier Part Number 1: 311-10KGRCT-ND; ComponentLink1Description: Upverter; ComponentLink2URL: http://www.yageo.com/documents/recent/PYu-RC_Group_51_RoHS_L_6.pdf; RoHS: TRUE; Mouser Part Number: 603-RC0603JR-0710KL; Ipc Land Pattern Name: RESC16080X45; Temperature Range High: +155°C; Octopart Part Number: 1fdcd61e8aa8c01b; Digikey Description: RES 10k Ohm ±5% 0.1W, 1/10W Chip Resistor 0603 (1608 Metric) Moisture Resistant Thick Film; Digikey Part Number: 311-10KGRCT-ND; Type: integrated circuit; Lead Free: yes; Temperature Range Low: -55°C; Value: 1kΩ
footprint R0603
pins: 1, 2

## RES0603_1K_%1
designator R?, comment value 1k  (hidden comment: RES 1K OHM 1% 1/10W 0603)
1 kOhms ±1% 0.1W, 1/10W Chip Resistor 0603 (1608 Metric) Moisture Resistant Thick Film; Manufacturer Part Number: RC0603FR-071KL; Order Code: Digi: 311-1.00KHRTR-ND; Sirius Stock Code: *; LCSC Part Number: C22548; LCSC Manufacturer Part Number: RC0603FR-071KL
footprint SMR0603
pins: 1, 2

## RES0603_1K_%1_1
designator R?, comment value 1k  (hidden comment: RES 1K OHM 1% 1/10W 0603)
1 kOhms ±1% 0.1W, 1/10W Chip Resistor 0603 (1608 Metric) Moisture Resistant Thick Film; Manufacturer Part Number: RC0603FR-071KL; Sirius Stock Code: S182-00001KDFD; Order Code: Digi:311-1.00KHRTR-ND
footprint RES0603 (RESISTOR 0603)
pins: 1, 2

## RES0603_1K_%1_1_1
designator R?, comment value 1k  (hidden comment: RES 1K OHM 1% 1/10W 0603)
1 kOhms ±1% 0.1W, 1/10W Chip Resistor 0603 (1608 Metric) Moisture Resistant Thick Film; Manufacturer Part Number: RC0603FR-071KL; Sirius Stock Code: S182-00001KDFD; Order Code: Digi:311-1.00KHRTR-ND
footprint RES0603 (RESISTOR 0603)
pins: 1, 2

## RES0603_1K_%1_2
designator R?, comment value 1k  (hidden comment: RES 1K OHM 1% 1/10W 0603)
1 kOhms ±1% 0.1W, 1/10W Chip Resistor 0603 (1608 Metric) Moisture Resistant Thick Film; Manufacturer Part Number: 0603WAF1001T5E; LCSC Part Number: C21190
footprint RES0603 (RESISTOR 0603)
pins: 1, 2

## RES0603_1K_%1_2_1
designator R?, comment value 1k  (hidden comment: RES 1K OHM 1% 1/10W 0603)
1 kOhms ±1% 0.1W, 1/10W Chip Resistor 0603 (1608 Metric) Moisture Resistant Thick Film; Manufacturer Part Number: 0603WAF1001T5E; LCSC Part Number: C21190
footprint RES0603 (RESISTOR 0603)
pins: 1, 2

## RES0603_1K_%1_3
designator R?, comment value 1k  (hidden comment: RES 1K OHM 1% 1/10W 0603)
1 kOhms ±1% 0.1W, 1/10W Chip Resistor 0603 (1608 Metric) Moisture Resistant Thick Film; Manufacturer Part Number: RC0603FR-071KL; Order Code: Digi: 311-1.00KHRTR-ND; Sirius Stock Code: *; LCSC Part Number: C22548; LCSC Manufacturer Part Number: RC0603FR-071KL
footprint SMR0603
pins: 1, 2

## RES0603_4.7K_%1
designator R?, comment 4.7kΩ
4.7 kOhms ±1% 0.1W, 1/10W Chip Resistor 0603 (1608 Metric) Moisture Resistant Thick Film; Manufacturer Part Number: RC0603FR-074K7L; Order Code: Digi:311-4.70KHRTR-ND; Value: 4.7K; Sirius Stock Code: *
footprint R0603
pins: 1, 2

## RES0603_9K1_%1
designator R?, comment value 9.1k  (hidden comment: RES 9.1K OHM 1% 1/10W 0603)
9.1 kOhms ±1% 0.1W, 1/10W Chip Resistor 0603 (1608 Metric) Moisture Resistant Thick Film; Manufacturer Part Number: RC0603FR-079K1L; Order Code: DIGI : 311-9.10KHRTR-ND; LCSC Manufacturer Part Number: RC0603FR-079K1L; LCSC Part Number: C114639
footprint SMR0603
pins: 1, 2

## RES0603_9K1_%1_1
designator R?, comment value 9.1k  (hidden comment: RES 9.1K OHM 1% 1/10W 0603)
9.1 kOhms ±1% 0.1W, 1/10W Chip Resistor 0603 (1608 Metric) Moisture Resistant Thick Film; Manufacturer Part Number: RC0603FR-079K1L; Order Code: DIGI : 311-9.10KHRTR-ND; LCSC Manufacturer Part Number: RC0603FR-079K1L; LCSC Part Number: C114639
footprint SMR0603
pins: 1, 2

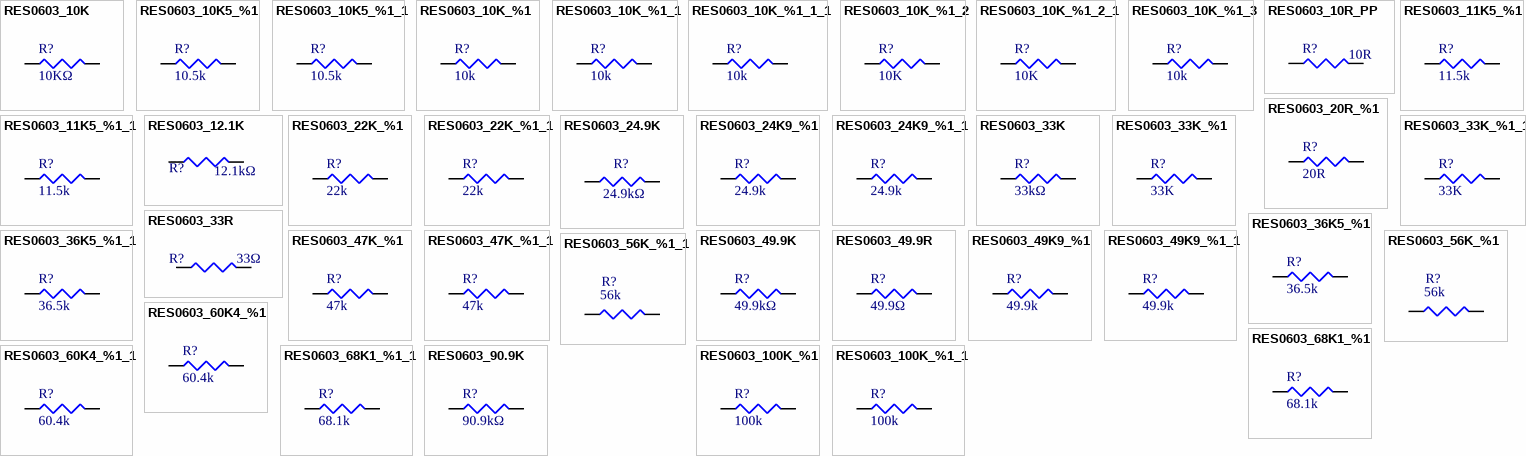
[diagram p13: symbols RES0603_10K to RES0603_100K_%1_1]

## RES0603_10K
designator R?, comment 10KΩ
RES 10k Ohm ±5% 0.1W, 1/10W Chip Resistor 0603 (1608 Metric) Moisture Resistant Thick Film; Manufacturer: YAGEO; Manufacturer Part Number: RC0603JR-0710KL; Category 7542B8484461Ae85: Passive Components; Category 5A00970A6D5C81C7: Uncategorized; Category 5C6A91606D4187Ad: Resistors; Category Cd01000Bfc2916C6: Single Components; Symbol 0 0: Standard; Num Pins: 2; Tolerance: ±5%; Part Number: RC0603JR-0710KL; helpURL: https://upverter.com/upn/revision/974350d35a6c8a23/; ComponentLink2Description: Datasheet; Temperature: -55°C to +155°C; Package: 0603 (1608 metric); Supplier 2: Mouser; Price: 0.00379592162232; Supplier 1: Digi-Key; ComponentLink1URL: https://upverter.com/upn/revision/974350d35a6c8a23/; Supplier Part Number 1: 311-10KGRCT-ND; Value: 10KΩ; ComponentLink1Description: Upverter; ComponentLink2URL: http://www.yageo.com/documents/recent/PYu-RC_Group_51_RoHS_L_6.pdf; RoHS: TRUE; Mouser Part Number: 603-RC0603JR-0710KL; Ipc Land Pattern Name: RESC16080X45; Rated Power: 0.1W; Temperature Range High: +155°C; Octopart Part Number: 1fdcd61e8aa8c01b; Digikey Description: RES 10k Ohm ±5% 0.1W, 1/10W Chip Resistor 0603 (1608 Metric) Moisture Resistant Thick Film; Digikey Part Number: 311-10KGRCT-ND; Type: integrated circuit; Lead Free: yes; Temperature Range Low: -55°C
footprint R0603
pins: 1, 2

## RES0603_10K5_%1
designator R?, comment value 10.5k  (hidden comment: RES 10.5K OHM 1% 1/10W 0603)
100mW 10.5kΩ Thick Film Resistors ±1% 0603 Chip Resistor - Surface Mount ROHS; Manufacturer Part Number: 0603WAF1052T5E; Order Code: LCSC: C22855; Sirius Stock Code: *; LCSC Part Number: C22855; LCSC Manufacturer Part Number: 0603WAF1052T5E
footprint SMR0603
pins: 1, 2

## RES0603_10K5_%1_1
designator R?, comment value 10.5k  (hidden comment: RES 10.5K OHM 1% 1/10W 0603)
100mW 10.5kΩ Thick Film Resistors ±1% 0603 Chip Resistor - Surface Mount ROHS; Manufacturer Part Number: 0603WAF1052T5E; Order Code: LCSC: C22855; Sirius Stock Code: *; LCSC Part Number: C22855; LCSC Manufacturer Part Number: 0603WAF1052T5E
footprint SMR0603
pins: 1, 2

## RES0603_10K_%1
designator R?, comment value 10k  (hidden comment: RES 10K OHM 1% 1/10W 0603)
10 kOhms ±1% 0.1W, 1/10W Chip Resistor 0603 (1608 Metric) Moisture Resistant Thick Film; Manufacturer Part Number: RC0603FR-0710KL; Order Code: Digi: 311-10.0KHRTR-ND; Sirius Stock Code: *; LCSC Part Number: C98220; LCSC Manufacturer Part Number: RC0603FR-0710KL
footprint SMR0603
pins: 1, 2

## RES0603_10K_%1_1
designator R?, comment value 10k  (hidden comment: RES 10K OHM 1% 1/8W 0603)
10 kOhms ±1% 0.125W, 1/8W Chip Resistor 0603 (1608 Metric) Anti-Sulfur Thin Film; Manufacturer Part Number: RNCP0603FTD10K0; LCSC Manufacturer Part Number: MCT06030C1002FP500; Order Code: Digi: RNCP0603FTD10K0TR-ND; Sirius Stock Code: *; LCSC Part Number: C161803
footprint RES0603 (RESISTOR 0603)
pins: 1, 2

## RES0603_10K_%1_1_1
designator R?, comment value 10k  (hidden comment: RES 10K OHM 1% 1/8W 0603)
10 kOhms ±1% 0.125W, 1/8W Chip Resistor 0603 (1608 Metric) Anti-Sulfur Thin Film; Manufacturer Part Number: RNCP0603FTD10K0; LCSC Manufacturer Part Number: MCT06030C1002FP500; Order Code: Digi: RNCP0603FTD10K0TR-ND; Sirius Stock Code: *; LCSC Part Number: C161803
footprint RES0603 (RESISTOR 0603)
pins: 1, 2

## RES0603_10K_%1_2
designator R?, comment value 10K  (hidden comment: RES 10K OHM 1% 1/10W 0603)
10 kOhms ±1% 0.1W, 1/10W Chip Resistor 0603 (1608 Metric) Automotive AEC-Q200 Thick Film; Manufacturer Part Number: CQ03SAF1002T5E; Sirius Stock Code: A063-AGC103000177209
footprint RES0603 (RESISTOR 0603)
pins: 1, 2

## RES0603_10K_%1_2_1
designator R?, comment value 10K  (hidden comment: RES 10K OHM 1% 1/10W 0603)
10 kOhms ±1% 0.1W, 1/10W Chip Resistor 0603 (1608 Metric) Automotive AEC-Q200 Thick Film; Manufacturer Part Number: CQ03SAF1002T5E; Sirius Stock Code: A063-AGC103000177209
footprint RES0603 (RESISTOR 0603)
pins: 1, 2

## RES0603_10K_%1_3
designator R?, comment value 10k  (hidden comment: RES 10K OHM 1% 1/10W 0603)
10 kOhms ±1% 0.1W, 1/10W Chip Resistor 0603 (1608 Metric) Moisture Resistant Thick Film; Manufacturer Part Number: RC0603FR-0710KL; Order Code: Digi: 311-10.0KHRTR-ND; Sirius Stock Code: *; LCSC Part Number: C98220; LCSC Manufacturer Part Number: RC0603FR-0710KL
footprint SMR0603
pins: 1, 2

## RES0603_10R_PP
designator R?, comment 10R
RES SMD 10 OHM 5% 1/4W 0603; Order Code: DIGI : RHM10DCT-ND; P/N: ESR03EZPJ100; ART Code: ART0020750; Value: 10R
footprint R0603
pins: 1, 2

## RES0603_11K5_%1
designator R?, comment value 11.5k  (hidden comment: RES 11.5K OHM 1% 1/10W 0603)
±1% 11.5kΩ 0603 Chip Resistor - Surface Mount ROHS; Manufacturer Part Number: SCR0603F11K5; Order Code: LCSC: C3016130; Sirius Stock Code: *; LCSC Part Number: C3016130; LCSC Manufacturer Part Number: SCR0603F11K5
footprint SMR0603
pins: 1, 2

## RES0603_11K5_%1_1
designator R?, comment value 11.5k  (hidden comment: RES 11.5K OHM 1% 1/10W 0603)
±1% 11.5kΩ 0603 Chip Resistor - Surface Mount ROHS; Manufacturer Part Number: SCR0603F11K5; Order Code: LCSC: C3016130; Sirius Stock Code: *; LCSC Part Number: C3016130; LCSC Manufacturer Part Number: SCR0603F11K5
footprint SMR0603
pins: 1, 2

## RES0603_12.1K
designator R?, comment 12.1kΩ
12.1 kOhms ±1% 0.1W, 1/10W Chip Resistor 0603 (1608 Metric) Moisture Resistant Thick Film; Manufacturer: YAGEO; Part Number: RC0603FR-0712K1L; Manufacturer Part Number: CR0603-FX-2492ELF; Tolerance: ±5%; Category 7542B8484461Ae85: Passive Components; Category 5A00970A6D5C81C7: Uncategorized; Category 5C6A91606D4187Ad: Resistors; Category Cd01000Bfc2916C6: Single Components; Symbol 0 0: Standard; Num Pins: 2; Value: 12.1kΩ; Package: 0603 (1608 metric); ComponentLink1Description: Upverter; ComponentLink1URL: https://upverter.com/upn/revision/974350d35a6c8a23/; helpURL: https://upverter.com/upn/revision/974350d35a6c8a23/; ComponentLink2Description: Datasheet; Temperature: -55°C to +155°C; Supplier 2: Mouser; Price: 0.00379592162232; Supplier 1: Digi-Key; Supplier Part Number 1: 311-10KGRCT-ND; ComponentLink2URL: http://www.yageo.com/documents/recent/PYu-RC_Group_51_RoHS_L_6.pdf; RoHS: TRUE; Mouser Part Number: 603-RC0603JR-0710KL; Ipc Land Pattern Name: RESC16080X45; Rated Power: 0.1W; Temperature Range High: +155°C; Octopart Part Number: 1fdcd61e8aa8c01b; Digikey Description: RES 10k Ohm ±5% 0.1W, 1/10W Chip Resistor 0603 (1608 Metric) Moisture Resistant Thick Film; Digikey Part Number: 311-10KGRCT-ND; Type: integrated circuit; Lead Free: yes; Temperature Range Low: -55°C
footprint R0603
pins: 1, 2

## RES0603_20R_%1
designator R?, comment value 20R  (hidden comment: RES 20 OHM 1% 1/10W 0603)
20 Ohms ±1% 0.1W, 1/10W Chip Resistor 0603 (1608 Metric) Automotive AEC-Q200 Thick Film; Manufacturer Part Number: RMCF0603FT20R0; LCSC Manufacturer Part Number: WR06X20R0FTL; Order Code: Digi: RMCF0603FT20R0TR-ND; Sirius Stock Code: *; LCSC Part Number: C163881
footprint RES0603 (RESISTOR 0603)
pins: 1, 2

## RES0603_22K_%1
designator R?, comment value 22k  (hidden comment: RES 22K OHM 1% 1/10W 0603)
10 kOhms ±1% 0.1W, 1/10W Chip Resistor 0603 (1608 Metric) Moisture Resistant Thick Film; Manufacturer Part Number: RC0603FR-0722KL; Order Code: Digi: 311-22.0KHRTR-ND; Sirius Stock Code: *; LCSC Part Number: C114065; LCSC Manufacturer Part Number: RC0603FR-0722KL
footprint SMR0603
pins: 1, 2

## RES0603_22K_%1_1
designator R?, comment value 22k  (hidden comment: RES 22K OHM 1% 1/10W 0603)
10 kOhms ±1% 0.1W, 1/10W Chip Resistor 0603 (1608 Metric) Moisture Resistant Thick Film; Manufacturer Part Number: RC0603FR-0722KL; Order Code: Digi: 311-22.0KHRTR-ND; Sirius Stock Code: *; LCSC Part Number: C114065; LCSC Manufacturer Part Number: RC0603FR-0722KL
footprint SMR0603
pins: 1, 2

## RES0603_24.9K
designator R?, comment 24.9kΩ
24.9 kOhms ±1% 0.1W, 1/10W Chip Resistor 0603 (1608 Metric) Moisture Resistant Thick Film; Part Number: RC0603JR-0710KL; Manufacturer Part Number: CR0603-FX-2492ELF; Manufacturer: YAGEO; Tolerance: ±5%; Category 7542B8484461Ae85: Passive Components; Category 5A00970A6D5C81C7: Uncategorized; Category 5C6A91606D4187Ad: Resistors; Category Cd01000Bfc2916C6: Single Components; Symbol 0 0: Standard; Num Pins: 2; Value: 24.9kΩ; helpURL: https://upverter.com/upn/revision/974350d35a6c8a23/; ComponentLink2Description: Datasheet; Temperature: -55°C to +155°C; Package: 0603 (1608 metric); Supplier 2: Mouser; Price: 0.00379592162232; Supplier 1: Digi-Key; ComponentLink1URL: https://upverter.com/upn/revision/974350d35a6c8a23/; Supplier Part Number 1: 311-10KGRCT-ND; ComponentLink1Description: Upverter; ComponentLink2URL: http://www.yageo.com/documents/recent/PYu-RC_Group_51_RoHS_L_6.pdf; RoHS: TRUE; Mouser Part Number: 603-RC0603JR-0710KL; Ipc Land Pattern Name: RESC16080X45; Rated Power: 0.1W; Temperature Range High: +155°C; Octopart Part Number: 1fdcd61e8aa8c01b; Digikey Description: RES 10k Ohm ±5% 0.1W, 1/10W Chip Resistor 0603 (1608 Metric) Moisture Resistant Thick Film; Digikey Part Number: 311-10KGRCT-ND; Type: integrated circuit; Lead Free: yes; Temperature Range Low: -55°C
footprint R0603
pins: 1, 2

## RES0603_24K9_%1
designator R?, comment value 24.9k  (hidden comment: RES 24.9K OHM 1% 1/10W 0603)
24.9 kOhms ±1% 0.1W, 1/10W Chip Resistor 0603 (1608 Metric) Moisture Resistant Thick Film; Manufacturer Part Number: RC0603FR-0724K9L; Order Code: Digi: 311-24.9KHRTR-ND; Sirius Stock Code: *; LCSC Part Number: C137761; LCSC Manufacturer Part Number: RC0603FR-0724K9L
footprint SMR0603
pins: 1, 2

## RES0603_24K9_%1_1
designator R?, comment value 24.9k  (hidden comment: RES 24.9K OHM 1% 1/10W 0603)
24.9 kOhms ±1% 0.1W, 1/10W Chip Resistor 0603 (1608 Metric) Moisture Resistant Thick Film; Manufacturer Part Number: RC0603FR-0724K9L; Order Code: Digi: 311-24.9KHRTR-ND; Sirius Stock Code: *; LCSC Part Number: C137761; LCSC Manufacturer Part Number: RC0603FR-0724K9L
footprint SMR0603
pins: 1, 2

## RES0603_33K
designator R?, comment 33kΩ
33 kOhms ±1% 0.1W, 1/10W Chip Resistor 0603 (1608 Metric) Automotive AEC-Q200 Thick Film; Manufacturer Part Number: RMCF0603FT180K; Part Number: RC0603JR-0710KL; Manufacturer: Stackpole Electronics Inc; Tolerance: ±5%; Category 7542B8484461Ae85: Passive Components; Category 5A00970A6D5C81C7: Uncategorized; Category 5C6A91606D4187Ad: Resistors; Category Cd01000Bfc2916C6: Single Components; Symbol 0 0: Standard; Num Pins: 2; Value: 33kΩ; helpURL: https://upverter.com/upn/revision/974350d35a6c8a23/; ComponentLink2Description: Datasheet; Temperature: -55°C to +155°C; Package: 0603 (1608 metric); Supplier 2: Mouser; Price: 0.00379592162232; Supplier 1: Digi-Key; ComponentLink1URL: https://upverter.com/upn/revision/974350d35a6c8a23/; Supplier Part Number 1: 311-10KGRCT-ND; ComponentLink1Description: Upverter; ComponentLink2URL: http://www.yageo.com/documents/recent/PYu-RC_Group_51_RoHS_L_6.pdf; RoHS: TRUE; Mouser Part Number: 603-RC0603JR-0710KL; Ipc Land Pattern Name: RESC16080X45; Rated Power: 0.1W; Temperature Range High: +155°C; Octopart Part Number: 1fdcd61e8aa8c01b; Digikey Description: RES 10k Ohm ±5% 0.1W, 1/10W Chip Resistor 0603 (1608 Metric) Moisture Resistant Thick Film; Digikey Part Number: 311-10KGRCT-ND; Type: integrated circuit; Lead Free: yes; Temperature Range Low: -55°C
footprint R0603
pins: 1, 2

## RES0603_33K_%1
designator R?, comment value 33K  (hidden comment: RES 33K OHM 1% 1/10W 0603)
33 kOhms ±1% 0.1W, 1/10W Chip Resistor 0603 (1608 Metric) Moisture Resistant Thick Film; Manufacturer Part Number: RC0603FR-0733KL; Order Code: Digi: 311-33.0KHRTR-ND; Sirius Stock Code: *; LCSC Manufacturer Part Number: RC0603FR-0733KL; LCSC Part Number: C126359
footprint SMR0603
pins: 1, 2

## RES0603_33K_%1_1
designator R?, comment value 33K  (hidden comment: RES 33K OHM 1% 1/10W 0603)
33 kOhms ±1% 0.1W, 1/10W Chip Resistor 0603 (1608 Metric) Moisture Resistant Thick Film; Manufacturer Part Number: RC0603FR-0733KL; Order Code: Digi: 311-33.0KHRTR-ND; Sirius Stock Code: *; LCSC Manufacturer Part Number: RC0603FR-0733KL; LCSC Part Number: C126359
footprint SMR0603
pins: 1, 2

## RES0603_33R
designator R?, comment 33Ω
33 Ohms ±1% 0.1W, 1/10W Chip Resistor 0603 (1608 Metric) Moisture Resistant Thick Film; Manufacturer: Stackpole Electronics Inc; Part Number: RC0603JR-0710KL; Manufacturer Part Number: RC0603FR-0733RL; Tolerance: ±5%; Category 7542B8484461Ae85: Passive Components; Category 5A00970A6D5C81C7: Uncategorized; Category 5C6A91606D4187Ad: Resistors; Category Cd01000Bfc2916C6: Single Components; Symbol 0 0: Standard; Num Pins: 2; Value: 33Ω; Package: 0603 (1608 metric); ComponentLink1Description: Upverter; ComponentLink1URL: https://upverter.com/upn/revision/974350d35a6c8a23/; helpURL: https://upverter.com/upn/revision/974350d35a6c8a23/; ComponentLink2Description: Datasheet; Temperature: -55°C to +155°C; Supplier 2: Mouser; Price: 0.00379592162232; Supplier 1: Digi-Key; Supplier Part Number 1: 311-10KGRCT-ND; ComponentLink2URL: http://www.yageo.com/documents/recent/PYu-RC_Group_51_RoHS_L_6.pdf; RoHS: TRUE; Mouser Part Number: 603-RC0603JR-0710KL; Ipc Land Pattern Name: RESC16080X45; Rated Power: 0.1W; Temperature Range High: +155°C; Octopart Part Number: 1fdcd61e8aa8c01b; Digikey Description: RES 10k Ohm ±5% 0.1W, 1/10W Chip Resistor 0603 (1608 Metric) Moisture Resistant Thick Film; Digikey Part Number: 311-10KGRCT-ND; Type: integrated circuit; Lead Free: yes; Temperature Range Low: -55°C
footprint R0603
pins: 1, 2

## RES0603_36K5_%1
designator R?, comment value 36.5k  (hidden comment: RES 36.5K OHM 1% 1/10W 0603)
100mW 36.5kΩ Thick Film Resistors ±1% 0603 Chip Resistor - Surface Mount ROHS; Manufacturer Part Number: 0603WAF3652T5E; Order Code: LCSC: C23029; Sirius Stock Code: *; LCSC Part Number: C23029; LCSC Manufacturer Part Number: 0603WAF3652T5E
footprint SMR0603
pins: 1, 2

## RES0603_36K5_%1_1
designator R?, comment value 36.5k  (hidden comment: RES 36.5K OHM 1% 1/10W 0603)
100mW 36.5kΩ Thick Film Resistors ±1% 0603 Chip Resistor - Surface Mount ROHS; Manufacturer Part Number: 0603WAF3652T5E; Order Code: LCSC: C23029; Sirius Stock Code: *; LCSC Part Number: C23029; LCSC Manufacturer Part Number: 0603WAF3652T5E
footprint SMR0603
pins: 1, 2

## RES0603_47K_%1
designator R?, comment value 47k  (hidden comment: RES SMD 47K OHM 1% 1/10W 0603)
47 kOhms ±1% 0.1W, 1/10W Chip Resistor 0603 (1608 Metric) Thin Film; Manufacturer Part Number: RT0603FRE0747KL; Order Code: Digi: YAG3355TR-ND; Sirius Stock Code: *; LCSC Manufacturer Part Number: RT0603FRE0747KL; LCSC Part Number: C375512
footprint RES0603 (RESISTOR 0603)
pins: 1, 2

## RES0603_47K_%1_1
designator R?, comment value 47k  (hidden comment: RES SMD 47K OHM 1% 1/10W 0603)
47 kOhms ±1% 0.1W, 1/10W Chip Resistor 0603 (1608 Metric) Thin Film; Manufacturer Part Number: RT0603FRE0747KL; Order Code: Digi: YAG3355TR-ND; Sirius Stock Code: *; LCSC Manufacturer Part Number: RT0603FRE0747KL; LCSC Part Number: C375512
footprint RES0603 (RESISTOR 0603)
pins: 1, 2

## RES0603_49.9K
designator R?, comment 49.9kΩ
49.9 kOhms ±1% 0.1W, 1/10W Chip Resistor 0603 (1608 Metric) Moisture Resistant Thick Film; Part Number: RC0603FR-1047KL; Manufacturer Part Number: RC0603FR-0749K9L; Manufacturer: Stackpole Electronics Inc; Tolerance: ±5%; Category 7542B8484461Ae85: Passive Components; Category 5A00970A6D5C81C7: Uncategorized; Category 5C6A91606D4187Ad: Resistors; Category Cd01000Bfc2916C6: Single Components; Symbol 0 0: Standard; Num Pins: 2; Value: 49.9kΩ; helpURL: https://upverter.com/upn/revision/974350d35a6c8a23/; ComponentLink2Description: Datasheet; Temperature: -55°C to +155°C; Package: 0603 (1608 metric); Supplier 2: Mouser; Price: 0.00379592162232; Supplier 1: Digi-Key; ComponentLink1URL: https://upverter.com/upn/revision/974350d35a6c8a23/; Supplier Part Number 1: 311-10KGRCT-ND; ComponentLink1Description: Upverter; ComponentLink2URL: http://www.yageo.com/documents/recent/PYu-RC_Group_51_RoHS_L_6.pdf; RoHS: TRUE; Mouser Part Number: 603-RC0603JR-0710KL; Ipc Land Pattern Name: RESC16080X45; Rated Power: 0.1W; Temperature Range High: +155°C; Octopart Part Number: 1fdcd61e8aa8c01b; Digikey Description: RES 10k Ohm ±5% 0.1W, 1/10W Chip Resistor 0603 (1608 Metric) Moisture Resistant Thick Film; Digikey Part Number: 311-10KGRCT-ND; Type: integrated circuit; Lead Free: yes; Temperature Range Low: -55°C
footprint R0603
pins: 1, 2

## RES0603_49.9R
designator R?, comment 49.9Ω
49.9 Ohms ±1% 0.1W, 1/10W Chip Resistor 0603 (1608 Metric) Moisture Resistant Thick Film; Manufacturer: YAGEO; Part Number: RC0603FR-1349R9L; Manufacturer Part Number: CR0603-FX-2492ELF; Tolerance: ±5%; Category 7542B8484461Ae85: Passive Components; Category 5A00970A6D5C81C7: Uncategorized; Category 5C6A91606D4187Ad: Resistors; Category Cd01000Bfc2916C6: Single Components; Symbol 0 0: Standard; Num Pins: 2; Value: 49.9Ω; Package: 0603 (1608 metric); ComponentLink1Description: Upverter; ComponentLink1URL: https://upverter.com/upn/revision/974350d35a6c8a23/; helpURL: https://upverter.com/upn/revision/974350d35a6c8a23/; ComponentLink2Description: Datasheet; Temperature: -55°C to +155°C; Supplier 2: Mouser; Price: 0.00379592162232; Supplier 1: Digi-Key; Supplier Part Number 1: 311-10KGRCT-ND; ComponentLink2URL: http://www.yageo.com/documents/recent/PYu-RC_Group_51_RoHS_L_6.pdf; RoHS: TRUE; Mouser Part Number: 603-RC0603JR-0710KL; Ipc Land Pattern Name: RESC16080X45; Rated Power: 0.1W; Temperature Range High: +155°C; Octopart Part Number: 1fdcd61e8aa8c01b; Digikey Description: RES 10k Ohm ±5% 0.1W, 1/10W Chip Resistor 0603 (1608 Metric) Moisture Resistant Thick Film; Digikey Part Number: 311-10KGRCT-ND; Type: integrated circuit; Lead Free: yes; Temperature Range Low: -55°C
footprint R0603
pins: 1, 2

## RES0603_49K9_%1
designator R?, comment value 49.9k  (hidden comment: RES 49K9 OHM 1% 1/10W 0603)
49.9kΩ 100mW Thick Film Resistors ±1% 0603 Chip Resistor - Surface Mount ROHS; Manufacturer Part Number: 0603WAF4992T5E; Order Code: LCSC: C23184; Sirius Stock Code: *; LCSC Part Number: C23184; LCSC Manufacturer Part Number: 0603WAF4992T5E
footprint SMR0603
pins: 1, 2

## RES0603_49K9_%1_1
designator R?, comment value 49.9k  (hidden comment: RES 49K9 OHM 1% 1/10W 0603)
49.9kΩ 100mW Thick Film Resistors ±1% 0603 Chip Resistor - Surface Mount ROHS; Manufacturer Part Number: 0603WAF4992T5E; Order Code: LCSC: C23184; Sirius Stock Code: *; LCSC Part Number: C23184; LCSC Manufacturer Part Number: 0603WAF4992T5E
footprint SMR0603
pins: 1, 2

## RES0603_56K_%1
designator R?, comment value 56k  (hidden comment: RES 56K OHM 1% 1/10W 0603)
56 kOhms ±1% 0.1W, 1/10W Chip Resistor 0603 (1608 Metric) Moisture Resistant Thick Film; Manufacturer Part Number: RC0603FR-0756KL; Order Code: Digi: 311-56KHRTR-ND; Sirius Stock Code: *; LCSC Part Number: C114630; LCSC Manufacturer Part Number: RC0603FR-0756KL
footprint SMR0603
pins: 1, 2

## RES0603_56K_%1_1
designator R?, comment value 56k  (hidden comment: RES 56K OHM 1% 1/10W 0603)
56 kOhms ±1% 0.1W, 1/10W Chip Resistor 0603 (1608 Metric) Moisture Resistant Thick Film; Manufacturer Part Number: RC0603FR-0756KL; Order Code: Digi: 311-56KHRTR-ND; Sirius Stock Code: *; LCSC Part Number: C114630; LCSC Manufacturer Part Number: RC0603FR-0756KL
footprint SMR0603
pins: 1, 2